# Altium schematic symbol library ADAFRUIT_ULT_GPS.SchLib: 1 symbol
Pins are listed as number, name and electrical type; pins without a type are passive.

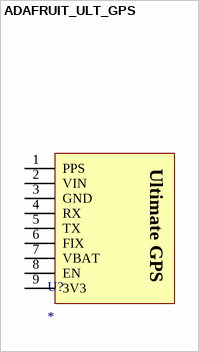
[diagram p0: symbol ADAFRUIT_ULT_GPS]

## ADAFRUIT_ULT_GPS
designator U?
pins: 1 PPS, 2 VIN, 3 GND, 4 RX, 5 TX, 6 FIX, 7 VBAT, 8 EN, 9 3V3
text: Ultimate GPS